# EAGLE library part TLC5540 (library custom)
ADC 8-bit 40MSPS Parallel 5V
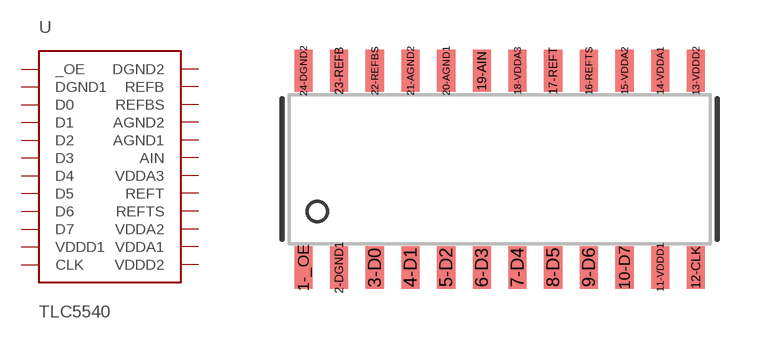
[diagram p17: symbol with the pads of 24-SOIC; footprint 24-SOIC]

Designator prefix -

## TLC5540  [24-SOIC]
1-_OE  _OE
2-DGND1  DGND1
3-D0  D0
4-D1  D1
5-D2  D2
6-D3  D3
7-D4  D4
8-D5  D5
9-D6  D6
10-D7  D7
11-VDDD1  VDDD1
12-CLK  CLK
13-VDDD2  VDDD2
14-VDDA1  VDDA1
15-VDDA2  VDDA2
16-REFTS  REFTS
17-REFT  REFT
18-VDDA3  VDDA3
19-AIN  AIN
20-AGND1  AGND1
21-AGND2  AGND2
22-REFBS  REFBS
23-REFB  REFB
24-DGND2  DGND2

## Footprint 24-SOIC (pad centres in mm)
smd 0.65 x 1.5: 1-_OE -6.985,-3.5; 2-DGND1 -5.715,-3.5; 3-D0 -4.445,-3.5; 4-D1 -3.175,-3.5; 5-D2 -1.905,-3.5; 6-D3 -0.635,-3.5; 7-D4 0.635,-3.5; 8-D5 1.905,-3.5; 9-D6 3.175,-3.5; 10-D7 4.445,-3.5; 11-VDDD1 5.715,-3.5; 12-CLK 6.985,-3.5; 13-VDDD2 6.985,3.5; 14-VDDA1 5.715,3.5; 15-VDDA2 4.445,3.5; 16-REFTS 3.175,3.5; 17-REFT 1.905,3.5; 18-VDDA3 0.635,3.5; 19-AIN -0.635,3.5; 20-AGND1 -1.905,3.5; 21-AGND2 -3.175,3.5; 22-REFBS -4.445,3.5; 23-REFB -5.715,3.5; 24-DGND2 -6.985,3.5